# Altium footprint library TANTALUM_E.PcbLib: 1 footprints
Each footprint in its own frame and in the unit in brackets; x right, y up, seen from the top. Pads: shape width x height; smd on the part's side, far side on the other; paste and mask are expansions set on the pad; w line width, h text height; cw(c..) or ccw(c..) is an arc to the next point about the centre after c.
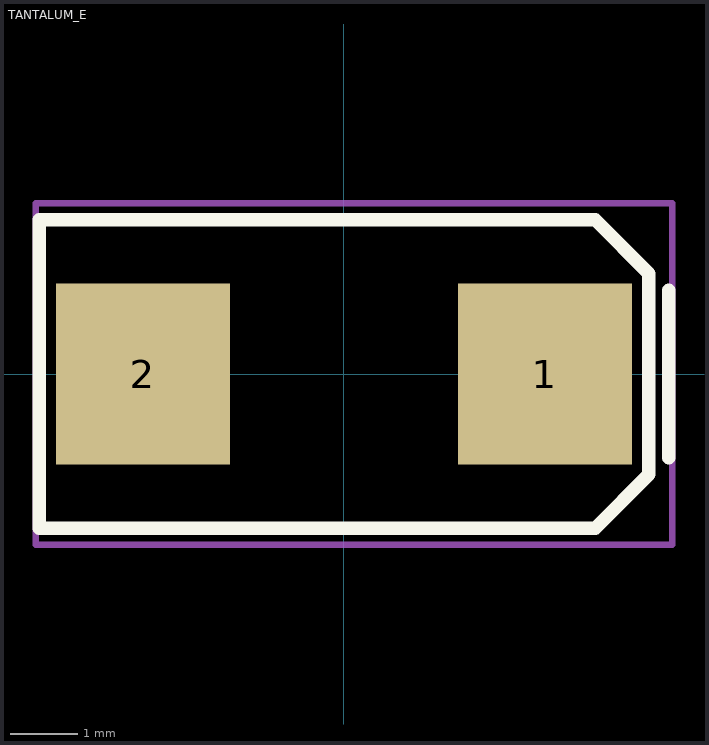
[diagram p0: the footprint, top view; thin cyan lines are the x and y axes]

## TANTALUM_E [mm]
pads (2):
  rect 2.6x2.7 smd: 1(3,0) 2(-3,0)
Top Overlay:
  lines w0.2: 4.85,-1.25 4.85,1.25 ; -4.55,-2.3 -4.55,2.3 3.75,2.3 4.55,1.5 4.55,-1.5 3.75,-2.3 -4.55,-2.3
Top Courtyard:
  lines w0.1: -4.6,-2.55 4.9,-2.55 4.9,2.55 -4.6,2.55 -4.6,-2.55
3D body "TCJ5477M016R0100.stp": height 4, standoff 0, extent -3.65,-2.225 3.65,2.225